# Altium footprint library USB_Type_A.PcbLib: 1 footprints
Each footprint in its own frame and in the unit in brackets; x right, y up, seen from the top. Pads: shape width x height; smd on the part's side, far side on the other; paste and mask are expansions set on the pad; w line width, h text height; cw(c..) or ccw(c..) is an arc to the next point about the centre after c.
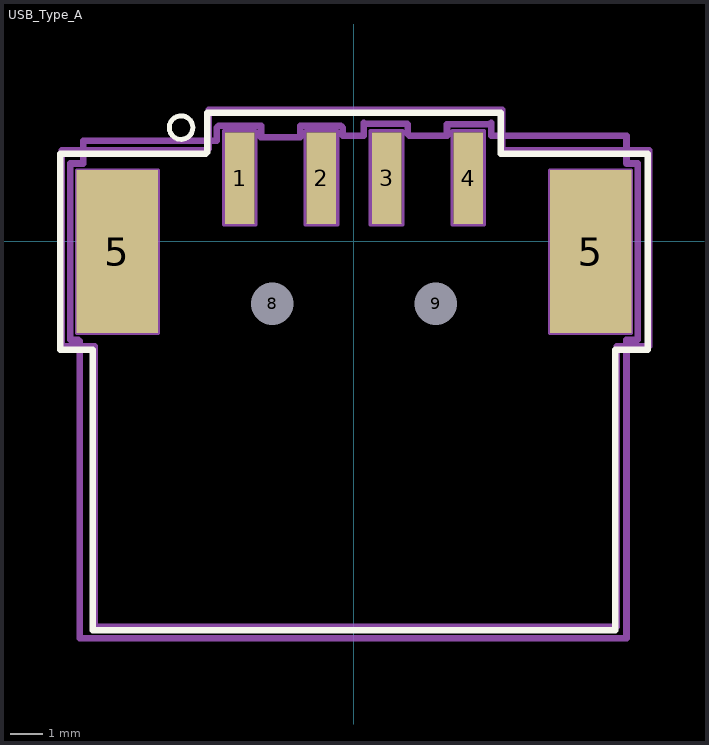
[diagram p0: the footprint, top view; thin cyan lines are the x and y axes]

## USB_Type_A [mm]
pads (8):
  rect 0.9x2.8 smd: 1(-3.5,1.925) 2(-1,1.925) 3(1,1.925) 4(3.5,1.925)
  rect 2.5x5 smd: 5(-7.25,-0.325) 5(7.25,-0.325)
  round 0.65 hole 1.3 mask+0.102: 8(-2.5,-1.925) 9(2.5,-1.925)
Top Overlay:
  circle w0.15: c-5.3,3.475 r0.361
  lines w0.2: -9,-3.325 -9,2.675 -4.55,2.675 -4.5,2.725 -4.5,3.925 4.5,3.925 4.5,2.675 9,2.675 9,-3.325 8,-3.325 8,-11.575 8,-11.925 -8,-11.925 -8,-11.575 -8,-3.325 -9,-3.325
Mechanical 3:
  lines w0.2: -8.95,-3.225 -8.95,2.775 -4.5,2.775 -4.45,2.825 -4.45,4.025 4.55,4.025 4.55,2.775 9.05,2.775 9.05,-3.225 8.05,-3.225 8.05,-11.475 8.05,-11.825 -7.95,-11.825 -7.95,-11.475 -7.95,-3.225 -8.95,-3.225
Mechanical 5:
  lines w0.1: -8.5,-2.825 -8.5,2.175 -6,2.175 -6,-2.825 -8.5,-2.825 ; -4,0.5 -4,3.375 -3,3.375 -3,0.5 -4,0.5 ; -1.5,0.5 -1.5,3.375 -0.5,3.375 -0.5,0.5 -1.5,0.5 ; 0.5,0.5 0.5,3.375 1.5,3.375 1.5,0.5 0.5,0.5 ; 3,0.5 3,3.375 4,3.375 4,0.5 3,0.5 ; 6,-2.825 6,2.175 8.5,2.175 8.5,-2.825 6,-2.825
Mechanical 7:
  lines w0.2: 0.3,3.625 0.35,3.575 ; 1.625,3.6 1.3,3.6 0.65,3.6 0.3,3.6 0.3,3.225 -0.35,3.225 -0.35,3.475 -0.4,3.525 -1.65,3.525 -1.65,3.175 -2.85,3.175 -2.85,3.525 -4.15,3.525 -4.2,3.475 -4.2,3.075 -8.3,3.075 -8.3,2.375 -8.7,2.375 -8.7,-3.025 -8.45,-3.025 -8.4,-3.075 -8.4,-12.175 8.35,-12.175 8.35,-3.025 8.7,-3.025 8.7,2.375 8.35,2.375 8.35,3.225 4.2,3.225 4.2,3.625 4.15,3.575 2.85,3.575 2.85,3.225 1.7,3.225 1.65,3.275 1.65,3.575
Mechanical 9:
  text "'.Designator'" at -5.55,-8 h1
3D body: height 0.5, standoff 0, extent -8.65,-12.075 8.65,3.525
3D body "USB-A-S-S-B-SM2-R-TR.stp": height 0.6, standoff -8.3, extent -8.2,-11.975 8.2,3.025
3D body: height 1.04, standoff 0, extent -8.7,-12.175 8.7,3.6